# Altium schematic symbol library SYM-Active.SchLib: 18 symbols
Pins are listed as number, name and electrical type; pins without a type are passive.

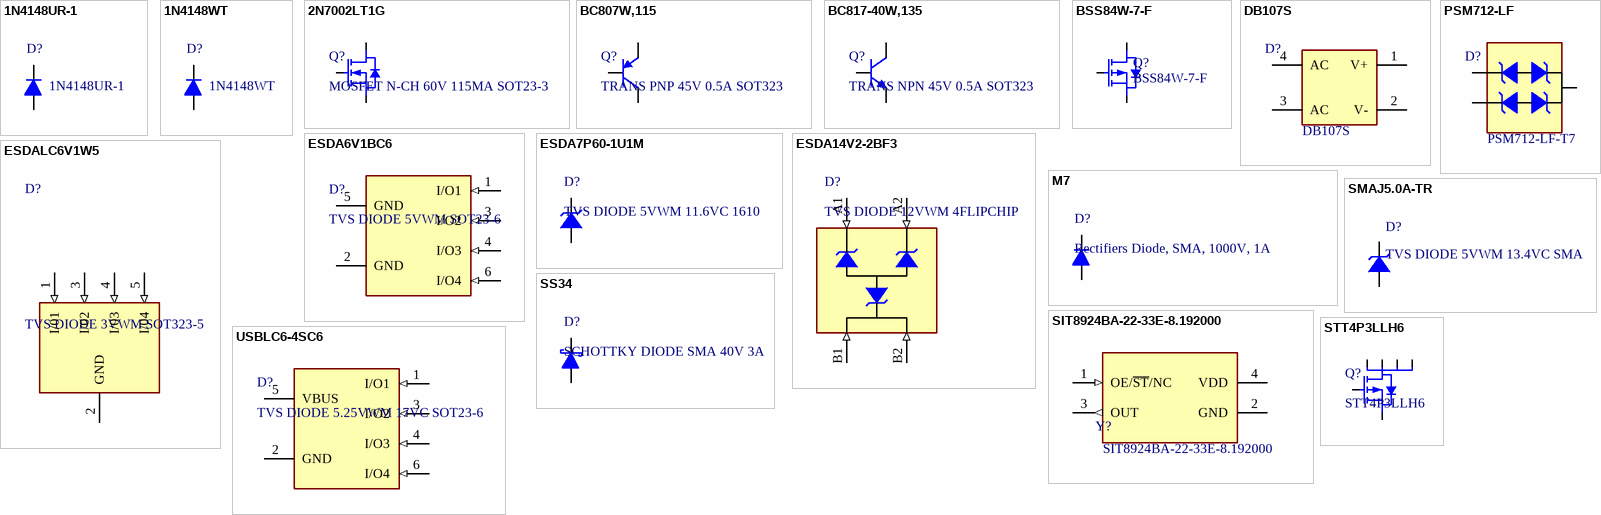
[diagram p0: symbols 1N4148UR-1 to USBLC6-4SC6]

## 1N4148UR-1
designator D?, comment Manufacturer Part Number: 1N4148UR-1  (hidden comment: DIODE GEN PURP 75V 200MA DO213AA)
Rectifier Diode Switching 75V 0.2A 5ns 2-Pin DO-213AA Bag; Manufacturer: Microsemi; Max Reverse Current: 500nA; Element Configuration: Single; Peak Non-Repetitive Surge Current: 2A; Forward Voltage: 1.2V; Supplier 1: Digi-Key; RoHS: No; Category: Rectifier Diodes; Mount: Surface Mount; Number of Pins: 2; Min Operating Temperature: -65°C; Max Operating Temperature: 175°C; Average Rectified Current: 200mA; Reverse Recovery Time: 5ns; Max Repetitive Reverse Voltage (Vrrm): 75V; Max Reverse Voltage (DC): 75V; Forward Current: 200mA; Packaging: Bulk; Radiation Hardening: No; Lead Free: Lead Free; ComponentLink1URL: https://datasheet.ciiva.com/3304/lds-0281-1-3304223.pdf?src-supplier=Avnet; ComponentLink1Description: https://datasheet.ciiva.com/3304/lds-0281-1-3304223.pdf?src-supplier=Avnet; Supplier Part Number 1: 1N4148UR-1-ND
footprint DIOMELF3015N (MELF Diode, 2-Leads, Body 3/00x1/50mm, IPC Medium Density)
pins: A, C

## 1N4148WT
designator D?, comment Manufacturer Part Number: 1N4148WT  (hidden comment: DIODE GEN PURP 75V 200MA SOD523F)
Small Signal Diode, SOD-523, 100V, 0.125A, 4ns; Manufacturer: ON Semiconductor / Fairchild; Element Configuration: Single; Max Reverse Current: 5uA; Forward Current: 300mA; Forward Voltage: 1V; Max Forward Surge Current (Ifsm): 4A; Power Dissipation: 200mW; Supplier 1: Digi-Key; RoHS: Yes; Category: Rectifier Diodes; Stock 1: 895982; Pricing 1: 1=0/22000, 10=0/20500, 100=0/11140, 500=0/06856, 1000=0/04675, 2000=0/03974 (USD); Mount: Surface Mount; Number of Pins: 2; Weight: 0.01g; Contact Plating: Tin,Matte; Min Operating Temperature: -55°C; Max Operating Temperature: 150°C; Package Quantity: 1; Packaging: Tape and Reel; Recovery Time: 4ns; Average Rectified Current: 200mA; Reverse Recovery Time: 4ns; Max Repetitive Reverse Voltage (Vrrm): 75V; Max Reverse Voltage (DC): 75V; Series: -; Reverse Recovery Time-Max: 4ns; Length: 1.3mm; Width: 0.9mm; Height: 0.7mm; Radiation Hardening: No; REACH SVHC: No SVHC; Lead Free: Lead Free; RoHS Compliant: Yes; ComponentLink1URL: https://datasheet.ciiva.com/16744/1n4148wt-16744972.pdf?src-supplier=Future+Electronics; ComponentLink1Description: https://datasheet.ciiva.com/16744/1n4148wt-16744972.pdf?src-supplier=Future+Electronics; ComponentLink2URL: https://datasheet.ciiva.com/30479/0900766b810e1cd4-30479226.pdf?src-supplier=RSComponents; ComponentLink2Description: https://datasheet.ciiva.com/30479/0900766b810e1cd4-30479226.pdf?src-supplier=RSComponents; ComponentLink3URL: https://datasheet.ciiva.com/15208/getdatasheetpartid-146392-15208359.pdf?src-supplier=Verical; ComponentLink3Description: https://datasheet.ciiva.com/15208/getdatasheetpartid-146392-15208359.pdf?src-supplier=Verical; ComponentLink4URL: https://datasheet.ciiva.com/916/1n914bwt-916865.pdf?src-supplier=Digi-Key; ComponentLink4Description: https://datasheet.ciiva.com/916/1n914bwt-916865.pdf?src-supplier=Digi-Key; ComponentLink5URL: https://datasheet.ciiva.com/916/1n914bwt-916866.pdf?src-supplier=Digi-Key; ComponentLink5Description: https://datasheet.ciiva.com/916/1n914bwt-916866.pdf?src-supplier=Digi-Key; ComponentLink6URL: https://datasheet.ciiva.com/916/1n914bwt-916864.pdf?src-supplier=Digi-Key; ComponentLink6Description: https://datasheet.ciiva.com/916/1n914bwt-916864.pdf?src-supplier=Digi-Key; Supplier Part Number 1: 1N4148WTCT-ND
footprint DIOC1608X07N (Chip Diode, 2-Leads, Body 1/60x0/80mm, IPC Medium Density)
pins: 1 C, 2 A

## 2N7002LT1G
designator Q?, comment MOSFET N-CH 60V 115MA SOT23-3
Mosfet; N-ch; Vdss 60VDC; Rds(on) 7.5 Ohms; Id +/-115MA; SOT-23 (TO-236); Pd 225MW; -55; Manufacturer: ON Semiconductor; Manufacturer Part Number: 2N7002LT1G; Rds On Max: 7.5R; Input Capacitance: 50pF; Nominal Vgs: 2.5V; Number of Elements: 1; Power Dissipation: 300mW; Turn-Off Delay Time: 40ns; Turn-On Delay Time: 20ns; Element Configuration: Single; Gate to Source Voltage (Vgs): 20V; Supplier 1: Digi-Key; RoHS: Yes; Category: MOSFETs; Pricing 1: 1=0/20000, 10=0/18100, 100=0/09830, 500=0/06050, 1000=0/04125 (USD); Case/Package: SOT-23-3; Number of Pins: 3; Contact Plating: Tin,Matte; Min Operating Temperature: -55°C; Max Operating Temperature: 150°C; Package Quantity: 1; Max Power Dissipation: 225mW; Packaging: Tape and Reel; Drain to Source Voltage (Vdss): 60V; Continuous Drain Current (ID): 115mA; Drain to Source Breakdown Voltage: 60V; Drain to Source Resistance: 7.5R; Threshold Voltage: 2.5V; Voltage Rating (DC): 60V; Current Rating: 115mA; On-State Resistance: 7.5R; Number of Channels: 1; Length: 3.04mm; Width: 1.4mm; Height: 1.01mm; Radiation Hardening: No; REACH SVHC: No SVHC; Lead Free: Lead Free; Halogen Free: Halogen Free; RoHS Compliant: Yes; ComponentLink1URL: https://datasheet.ciiva.com/936/2n7002l-d-936784.pdf?src-supplier=Digi-Key; ComponentLink1Description: https://datasheet.ciiva.com/936/2n7002l-d-936784.pdf?src-supplier=Digi-Key; ComponentLink2URL: https://datasheet.ciiva.com/22749/1747988-22749570.pdf?src-supplier=Element14; ComponentLink2Description: https://datasheet.ciiva.com/22749/1747988-22749570.pdf?src-supplier=Element14; ComponentLink3URL: https://datasheet.ciiva.com/3304/2n7002l-d-3304393.pdf?src-supplier=Avnet; ComponentLink3Description: https://datasheet.ciiva.com/3304/2n7002l-d-3304393.pdf?src-supplier=Avnet; ComponentLink4URL: https://datasheet.ciiva.com/24157/2n7002l-d-24157398.pdf?src-supplier=Future+Electronics; ComponentLink4Description: https://datasheet.ciiva.com/24157/2n7002l-d-24157398.pdf?src-supplier=Future+Electronics; ComponentLink5URL: https://datasheet.ciiva.com/26146/2n7002l-d-26146173.pdf?src-supplier=Avnet+Europe; ComponentLink5Description: https://datasheet.ciiva.com/26146/2n7002l-d-26146173.pdf?src-supplier=Avnet+Europe; ComponentLink6URL: https://datasheet.ciiva.com/16542/2n7002l-d-16542607.pdf?src-supplier=Avnet+Asia; ComponentLink6Description: https://datasheet.ciiva.com/16542/2n7002l-d-16542607.pdf?src-supplier=Avnet+Asia; ComponentLink7URL: https://datasheet.ciiva.com/8114/2n7002l-d-8114823.pdf?src-supplier=Avnet; ComponentLink7Description: https://datasheet.ciiva.com/8114/2n7002l-d-8114823.pdf?src-supplier=Avnet; ComponentLink8URL: https://datasheet.ciiva.com/936/2n7002l-d-936785.pdf?src-supplier=Digi-Key; ComponentLink8Description: https://datasheet.ciiva.com/936/2n7002l-d-936785.pdf?src-supplier=Digi-Key; ComponentLink9URL: https://datasheet.ciiva.com/936/2n7002l-d-936786.pdf?src-supplier=Digi-Key; ComponentLink9Description: https://datasheet.ciiva.com/936/2n7002l-d-936786.pdf?src-supplier=Digi-Key; ComponentLink10URL: https://datasheet.ciiva.com/1254/1747988-1254500.pdf?src-supplier=Newark; ComponentLink10Description: https://datasheet.ciiva.com/1254/1747988-1254500.pdf?src-supplier=Newark; ComponentLink11URL: https://datasheet.ciiva.com/1188/97418-1188471.pdf?src-supplier=Element14; ComponentLink11Description: https://datasheet.ciiva.com/1188/97418-1188471.pdf?src-supplier=Element14; Supplier Part Number 1: 2N7002LT1GOSCT-ND
footprint SOT95P245X110-3N (SOT23, 3-Leads, Body 2/90x2/45mm, Pitch 0/95mm, IPC Medium Density)
pins: 1 G, 2 S, 3 D

## BC807W,115
designator Q?, comment TRANS PNP 45V 0.5A SOT323
BC807 Series 45 V 500 mA PNP Surface Mount Silicon Transistor - SOT-23; Manufacturer: Nexperia; Manufacturer Part Number: BC807W,115; Supplier 1: Digi-Key; RoHS: Yes; Category: BJTs; Stock 1: 25830; Pricing 1: 1=0/20000, 10=0/18200, 100=0/09930, 500=0/06110, 1000=0/04166 (USD); ComponentLink1URL: http://www.farnell.com/datasheets/665236.pdf?src-supplier=Farnell; ComponentLink1Description: http://www.farnell.com/datasheets/665236.pdf?src-supplier=Farnell; Supplier Part Number 1: 1727-4839-1-ND
footprint SOT95P245X110-3N (SOT23, 3-Leads, Body 2/90x2/45mm, Pitch 0/95mm, IPC Medium Density)
pins: 1 B, 2 E, 3 C

## BC817-40W,135
designator Q?, comment TRANS NPN 45V 0.5A SOT323
BC817 Series 45 V 500 mA NPN SMT General Purpose Transistor - SOT-323-3; Manufacturer: Nexperia; Manufacturer Part Number: BC817-40W,135; Supplier 1: Digi-Key; RoHS: Yes; Category: BJTs; Stock 1: 49501; Pricing 1: 1=0/20000, 10=0/18200, 100=0/09930, 500=0/06110, 1000=0/04166, 2000=0/03541, 5000=0/03194 (USD); Supplier Part Number 1: 1727-6185-1-ND
footprint SOT95P245X110-3N (SOT23, 3-Leads, Body 2/90x2/45mm, Pitch 0/95mm, IPC Medium Density)
pins: 1 B, 2 E, 3 C

## BSS84W-7-F
designator Q?
P-Channel 50V 130mA (Ta) 200mW (Ta) Surface Mount SOT-323; Manufacturer: Diodes Incorporated; Manufacturer Part Number: BSS84W-7-F; Case/Package: SOT-323; Supplier-1: Digikey
footprint SOT65P222X90-3N (SOT23, 3-Leads, Body 2/00x2/23mm, Pitch 0/65mm, IPC Medium Density)
pins: 1 G, 2 S, 3 D

## DB107S
designator D?, comment Manufacturer Part Number: DB107S  (hidden comment: Bridge Rectifiers 1A 1000V)
Diode Rectifier Bridge Single 1KV 1A 4-Pin Case DB-S; Manufacturer: Rectron; Max Surge Current: 40A; Max Reverse Leakage Current: 5uA; Supplier 1: Mouser; RoHS: Yes; Category: Rectifier Diodes; Stock 1: 9120; Pricing 1: 1=0/41000, 10=0/33400, 50=0/33400, 100=0/22800, 1000=0/12700, 10000=0/11600 (USD); Number of Pins: 4; Min Operating Temperature: -55°C; Max Operating Temperature: 150°C; Packaging: Tape and Reel; Package Quantity: 2500; Length: 8.8mm; Width: 6.5mm; Height: 3.4mm; ComponentLink1URL: http://www.mouser.com/ds/2/345/db101s-1012s-17410.pdf?src-supplier=Mouser; ComponentLink1Description: http://www.mouser.com/ds/2/345/db101s-1012s-17410.pdf?src-supplier=Mouser; Supplier Part Number 1: 583-DB107S
footprint BRIDGED508P1000X260-4N (CHIP BRIDGE Rectifier 4-Leads, Body 8/45x6/50mm, Pitch 5/08mm, IPC Medium Density)
pins: 1 V+ (power), 2 V- (power), 3 AC (power), 4 AC (power)

## ESDA6V1BC6
designator D?, comment TVS DIODE 5VWM SOT23-6
ESDA Series 4 Channel 6.1 V 20 pF SMT Bi-Directional Transil Array - SOT-23-6L; Manufacturer: STMicroelectronics; Manufacturer Part Number: ESDA6V1BC6; Direction: Bidirectional; Capacitance: 20pF; Number of Channels: 4; Reverse Breakdown Voltage: 6.1V; Operating Supply Voltage: 5V; Peak Pulse Power: 80W; Power Line Protection: No; Max Breakdown Voltage: 8V; Leakage Current: 1uA; Test Current: 1mA; ESD Protection: Yes; Clamping Voltage: 11.35V; Diode Type: ZENER; Supplier 1: Digi-Key; RoHS: Yes; Category: Integrated Circuits (ICs); Stock 1: 1484; Pricing 1: 1=0/56000, 10=0/45700, 100=0/31120, 500=0/23338, 1000=0/17503 (USD); Mount: Surface Mount; Case/Package: SOT-23; Number of Pins: 6; Min Operating Temperature: -40°C; Max Operating Temperature: 125°C; Package Quantity: 1; Packaging: Tape and Reel; Number of Elements: 4; Number of Bidirectional Channels: 4; Reverse Standoff Voltage: 5V; Min Breakdown Voltage: 6.1V; Polarity: Bidirectional; Breakdown Voltage: 6.1V; Termination: SMD/SMT; Max Power Dissipation: 80W; Working Voltage: 5V; Max Reverse Leakage Current: 1uA; Voltage Rating (DC): 6.1V; Resistor Type: Zener; Series: ESDA, TRANSIL™; Length: 3.05mm; Width: 1.75mm; Height: 1.45mm; Depth: 1.75mm; Radiation Hardening: No; REACH SVHC: No SVHC; Lead Free: Lead Free; RoHS Compliant: Yes; ComponentLink1URL: https://datasheet.ciiva.com/15143/getdatasheetpartid-148472-15143793.pdf?src-supplier=Verical; ComponentLink1Description: https://datasheet.ciiva.com/15143/getdatasheetpartid-148472-15143793.pdf?src-supplier=Verical; ComponentLink2URL: https://datasheet.ciiva.com/4507/cd00001906-94538-4507893.pdf?src-supplier=Mouser; ComponentLink2Description: https://datasheet.ciiva.com/4507/cd00001906-94538-4507893.pdf?src-supplier=Mouser; ComponentLink3URL: https://datasheet.ciiva.com/14186/esda6v1bc6-st-eng-tds-14186554.pdf?src-supplier=Distrelec; ComponentLink3Description: https://datasheet.ciiva.com/14186/esda6v1bc6-st-eng-tds-14186554.pdf?src-supplier=Distrelec; ComponentLink4URL: https://datasheet.ciiva.com/338/cd00001906-338704.pdf?src-supplier=Digi-Key; ComponentLink4Description: https://datasheet.ciiva.com/338/cd00001906-338704.pdf?src-supplier=Digi-Key; ComponentLink5URL: https://datasheet.ciiva.com/338/cd00001906-338705.pdf?src-supplier=Digi-Key; ComponentLink5Description: https://datasheet.ciiva.com/338/cd00001906-338705.pdf?src-supplier=Digi-Key; ComponentLink6URL: https://datasheet.ciiva.com/11194/cd00001906-11194053.pdf?src-supplier=Avnet; ComponentLink6Description: https://datasheet.ciiva.com/11194/cd00001906-11194053.pdf?src-supplier=Avnet; ComponentLink7URL: https://datasheet.ciiva.com/7662/1671767-7662124.pdf?src-supplier=Element14; ComponentLink7Description: https://datasheet.ciiva.com/7662/1671767-7662124.pdf?src-supplier=Element14; Supplier Part Number 1: 497-6635-1-ND
footprint SOT95P280X145-6N (SOT23, 6-Leads, Body 2/93x2/80mm, Pitch 0/95mm, IPC Medium Density)
pins: 1 I/O1 (in), 2 GND (power), 3 I/O2 (in), 4 I/O3 (in), 5 GND (power), 6 I/O4 (in)

## ESDA7P60-1U1M
designator D?, comment TVS DIODE 5VWM 11.6VC 1610
ESDA Series 6.4 V 700 W SMT Uni-Directional TVS Diode - 1610; Manufacturer: STMicroelectronics; Manufacturer Part Number: ESDA7P60-1U1M; Number of Unidirectional Channels: 1; Reverse Standoff Voltage: 5V; Min Breakdown Voltage: 6.4V; Clamping Voltage: 11.6V; Peak Pulse Power: 700W; Power Line Protection: No; Polarity: Unidirectional; Max Breakdown Voltage: 7.2V; Peak Pulse Current: 60A; Supplier 1: Digi-Key; RoHS: Yes; Category: TVS Diodes; Pricing 1: 1=0/51000, 10=0/38400, 100=0/23910, 500=0/16360, 1000=0/12584, 2000=0/11326 (USD); Mount: Surface Mount; Case/Package: 1610; Number of Pins: 2; Min Operating Temperature: -55°C; Max Operating Temperature: 150°C; Packaging: Cut Tape; Resistor Type: Zener; REACH SVHC: No SVHC; RoHS Compliant: Yes; ComponentLink1URL: http://www.farnell.com/datasheets/2041290.pdf?src-supplier=Farnell; ComponentLink1Description: http://www.farnell.com/datasheets/2041290.pdf?src-supplier=Farnell; ComponentLink2URL: http://www.st.com/content/ccc/resource/technical/document/datasheet/44/e9/26/44/42/ee/4f/e5/DM00139972.pdf/files/DM00139972.pdf/jcr:content/translations/en.DM00139972.pdf?src-supplier=Digi-Key; ComponentLink2Description: http://www.st.com/content/ccc/resource/technical/document/datasheet/44/e9/26/44/42/ee/4f/e5/DM00139972.pdf/files/DM00139972.pdf/jcr:content/translations/en.DM00139972.pdf?src-supplier=Digi-Key; ComponentLink3URL: http://www.farnell.com/datasheets/2041290.pdf?src-supplier=Element14; ComponentLink3Description: http://www.farnell.com/datasheets/2041290.pdf?src-supplier=Element14; Supplier Part Number 1: 497-16253-1-ND
footprint DFN105P160X60-2N (DFN, 2-Leads, Body 1/00x1/60mm, Pitch 1/05mm, IPC Medium Density)
pins: 1 K (power), 2 A (power)

## ESDA14V2-2BF3
designator D?, comment TVS DIODE 12VWM 4FLIPCHIP
General Purpose ESD Protection, Bi-Directional, 12V VRM max, CSP P 0.4 mm, RoHS; Manufacturer: STMicroelectronics; Manufacturer Part Number: ESDA14V2-2BF3; Direction: Bidirectional; Capacitance: 12pF; Number of Bidirectional Channels: 2; Min Breakdown Voltage: 14.2V; Peak Pulse Power: 50W; Power Line Protection: No; Leakage Current: 500nA; Element Configuration: Dual; Diode Type: ZENER; Supplier 1: Digi-Key; RoHS: Yes; Category: TVS Diodes; Stock 1: 2921; Pricing 1: 1=0/51000, 10=0/41000, 100=0/27910, 500=0/20936, 1000=0/15701, 2000=0/14393 (USD); Mount: Surface Mount; Case/Package: FCBGA; Number of Pins: 4; Min Operating Temperature: -40°C; Max Operating Temperature: 125°C; Packaging: Tape and Reel; Package Quantity: 5000; Reverse Standoff Voltage: 12V; Polarity: Bidirectional; Number of Channels: 2; Termination: SMD/SMT; Working Voltage: 12V; Max Power Dissipation: 50W; Breakdown Voltage: 14.2V; Resistor Type: Zener; Series: ESDA, TRANSIL™; Length: 1.07mm; Depth: 1.07mm; Radiation Hardening: No; RoHS Compliant: Yes; ComponentLink1URL: https://datasheet.ciiva.com/25956/cd00083365-25956978.pdf?src-supplier=Avnet+Europe; ComponentLink1Description: https://datasheet.ciiva.com/25956/cd00083365-25956978.pdf?src-supplier=Avnet+Europe; ComponentLink2URL: https://datasheet.ciiva.com/4518/cd00083365-97820-4518678.pdf?src-supplier=Mouser; ComponentLink2Description: https://datasheet.ciiva.com/4518/cd00083365-97820-4518678.pdf?src-supplier=Mouser; ComponentLink3URL: https://datasheet.ciiva.com/29588/cd00083365-29588645.pdf?src-supplier=Digi-Key; ComponentLink3Description: https://datasheet.ciiva.com/29588/cd00083365-29588645.pdf?src-supplier=Digi-Key; ComponentLink4URL: https://datasheet.ciiva.com/29588/cd00083365-29588646.pdf?src-supplier=Digi-Key; ComponentLink4Description: https://datasheet.ciiva.com/29588/cd00083365-29588646.pdf?src-supplier=Digi-Key; ComponentLink5URL: https://datasheet.ciiva.com/29588/cd00083365-29588647.pdf?src-supplier=Digi-Key; ComponentLink5Description: https://datasheet.ciiva.com/29588/cd00083365-29588647.pdf?src-supplier=Digi-Key; ComponentLink6URL: https://datasheet.ciiva.com/15186/getdatasheetpartid-487161-15186602.pdf?src-supplier=Verical; ComponentLink6Description: https://datasheet.ciiva.com/15186/getdatasheetpartid-487161-15186602.pdf?src-supplier=Verical; Supplier Part Number 1: 497-14159-1-ND
footprint BGA4C40P2X2_78X78X66 (BGA, 4-Leads, Body 0/78x0/78mmx0/66mm, Pitch 0/40mm)
pins: A1 (in), A2 (in), B1 (in), B2 (in)

## ESDALC6V1W5
designator D?, comment TVS DIODE 3VWM SOT323-5
- Clamp - Ipp Tvs Diode Surface Mount SOT-323-5; Supplier 1: Digi-Key; Supplier Part Number 1: 497-7231-1-ND
footprint SOT65P210X110-5N (SOT23, 5-Leads, Body 2/00x2/10mm, Pitch 0/65mm, IPC Medium Density)
pins: 1 I/01 (in), 2 GND (power), 3 I/02 (in), 4 I/03 (in), 5 I/04 (in)

## M7
designator D?, comment Rectifiers Diode, SMA, 1000V, 1A
Standard Recovery Rectifier , DO-214AC/SMA, 1000V, 1.00A; Manufacturer: Diotec; Manufacturer Part Number: M7; Supplier 1: Mouser; RoHS: Yes; Category: Integrated Circuits (ICs); Stock 1: 18183; Pricing 1: 1=0/38000, 10=0/34800, 50=0/34800, 100=0/19000, 1000=0/07700, 10000=0/04900 (USD); Packaging: Tape and Reel; RoHS Compliant: Yes; Supplier Part Number 1: 637-M7
footprint DIOM4526X24N (Molded Diode, 2-Leads, Body 4/50x2/65mm, IPC Medium Density)
pins: A, C

## PSM712-LF
designator D?, comment Manufacturer Part Number: PSM712-LF-T7  (hidden comment: TVS DIODE 12VWM 19VC SOT23)
STANDARD CAPACITANCE TVS ARRAY / ESD Suppressor Diode TVS Bi-Dir 12V/7V 3-Pin SOT-23 T/R; Manufacturer: Protek Devices; Value: 75pF; Direction: Bidirectional,Unidirectional; Clamping Voltage: 17V; Working Voltage: 7V; Leakage Current: 20uA; Min Breakdown Voltage: 7.5V; Power Dissipation: 600W; Element Configuration: Dual; Voltage: 12V; Supplier: Arrow Electronics; Supplier Part Number: PSM712-LF-T7; RoHS: Yes; Stock: 442; Pricing: 1=0.91570, 10=0.76640, 25=0.75870, 100=0.60910, 250=0.54690 (USD); Case/Package: SOT-23; Pins: 3; Min Operating Temperature: -55°C; Max Operating Temperature: 150°C; Packaging: Tape and Reel; Current: 20uA; Clamping Voltage-Max: 17V; Length: 3.04mm; Depth: 1.4mm; Radiation Hardening: No; RoHS Compliant: Yes; Lead Free: Lead Free; ComponentLink1URL: https://datasheet.ciiva.com/16382/psm712-16382815.pdf?src-supplier=Future+Electronics; ComponentLink1Description: https://datasheet.ciiva.com/16382/psm712-16382815.pdf?src-supplier=Future+Electronics
footprint SOT95P245X110-3N (SOT23, 3-Leads, Body 2/90x2/45mm, Pitch 0/95mm, IPC Medium Density)
pins: 1 T1 (power), 2 T2 (power), 3 T3 (power)

## SIT8924BA-22-33E-8.192000
designator Y?, comment Manufacturer Part Number: SIT8924BA-22-33E-8.192000  (hidden comment: MEMS OSC XO 8.1920MHZ LVCM LVTTL)
Manufacturer: SiTime; Supplier 1: Digi-Key; RoHS: No; Supplier Part Number 1: 1473-SIT8924BA-22-33E-8.192000-ND
footprint DFN210P320X80-4N (DFN, 4-Leads, Body 2/50x3/20mm, Pitch 2/10mm, IPC Medium Density)
pins: 1 OE/~{ST}/NC (in), 2 GND (power), 3 OUT (out), 4 VDD (power)

## SMAJ5.0A-TR
designator D?, comment TVS DIODE 5VWM 13.4VC SMA
13.4V Clamp 174A (8/20µs) Ipp Tvs Diode Surface Mount SMA (DO-214AC); Supplier 1: Digi-Key; Supplier Part Number 1: 497-2999-1-ND
footprint DIOM4326X24N (Molded Diode, 2-Leads, Body 4/28x2/58mm, IPC Medium Density)
pins: 1 K (power), 2 A (power)

## SS34
designator D?, comment SCHOTTKY DIODE SMA 40V 3A
Diode Schottky 40 V 3A Surface Mount SMA
footprint DIOM4526X24N (Molded Diode, 2-Leads, Body 4/50x2/65mm, IPC Medium Density)
pins: A, C

## STT4P3LLH6
designator Q?
P-Channel 30 V, 0.048 Ohm typ., 4 A STripFET H6 Power MOSFET in a SOT23-6L package; Manufacturer: STMicroelectronics; Drain to Source Voltage (Vdss): 30V; Continuous Drain Current (ID): 4A; Rds On Max: 56mR; Input Capacitance: 639pF; Max Power Dissipation: 1.6W; Supplier 1: Digi-Key; Manufacturer Part Number: STT4P3LLH6; RoHS: Yes; Category: MOSFETs; Mount: Surface Mount; Case/Package: SOT-23-6; Packaging: Tape and Reel; RoHS Compliant: Yes; ComponentLink1URL: http://www.mouser.com/ds/2/389/stt4p3llh6-956847.pdf?src-supplier=Mouser; ComponentLink1Description: http://www.mouser.com/ds/2/389/stt4p3llh6-956847.pdf?src-supplier=Mouser; ComponentLink2URL: http://www.st.com/content/ccc/resource/technical/document/datasheet/13/e4/a1/65/8b/79/44/73/DM00084060.pdf/files/DM00084060.pdf/jcr:content/translations/en.DM00084060.pdf?src-supplier=Digi-Key; ComponentLink2Description: http://www.st.com/content/ccc/resource/technical/document/datasheet/13/e4/a1/65/8b/79/44/73/DM00084060.pdf/files/DM00084060.pdf/jcr:content/translations/en.DM00084060.pdf?src-supplier=Digi-Key; Supplier Part Number 1: 497-15521-1-ND
footprint SOT95P280X145-6N (SOT23, 6-Leads, Body 2/93x2/80mm, Pitch 0/95mm, IPC Medium Density)
pins: 1 D, 2 D, 3 G, 4 S, 5 D, 6 D

## USBLC6-4SC6
designator D?, comment TVS DIODE 5.25VWM 17VC SOT23-6
17V Clamp 5A (8/20µs) Ipp Tvs Diode Surface Mount SOT-23-6; Supplier 1: Avnet; Supplier Part Number 1: 26M4749
footprint SOT95P280X145-6N (SOT23, 6-Leads, Body 2/93x2/80mm, Pitch 0/95mm, IPC Medium Density)
pins: 1 I/O1 (in), 2 GND (power), 3 I/O2 (in), 4 I/O3 (in), 5 VBUS (power), 6 I/O4 (in)